# Altium schematic symbol library Diodes.SchLib: 4 symbols
Pins are listed as number, name and electrical type; pins without a type are passive.

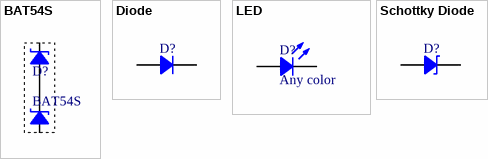
[diagram p0: symbols BAT54S to Schottky Diode]

## BAT54S
designator D?
Schottky barrier diodes; Value: BAT54S
footprint SOT23 (SOT23, 3-Leads, Body 2.90x2.40mm, Pitch 0.95mm, IPC Medium Density)
pins: 1, 2, 3

## Diode
designator D?
Rectifier Diode
footprint DIODE SMD 0603
footprint DIODE SMD DIOTEC
footprint DIODE SMD MINIMELF
footprint DIODE SMD SMA
footprint DIODE SMD SMB
pins: 1, 2

## LED
designator D?, comment Any color
Chip LED; Value: Any color
footprint LED 0603 (Chip Diode, 2-Leads)
footprint LED 1206 (Chip Diode, 2-Leads)
pins: 1, 2

## Schottky Diode
designator D?
Schottky Diode
footprint DIODE SMD 0603
footprint DIODE SMD DIOTEC
footprint DIODE SMD MINIMELF
footprint DIODE SMD SMA
footprint DIODE SMD SMB
pins: 1, 2